# Altium integrated library con-omron.IntLib: 107 symbols (part 3 of 3)

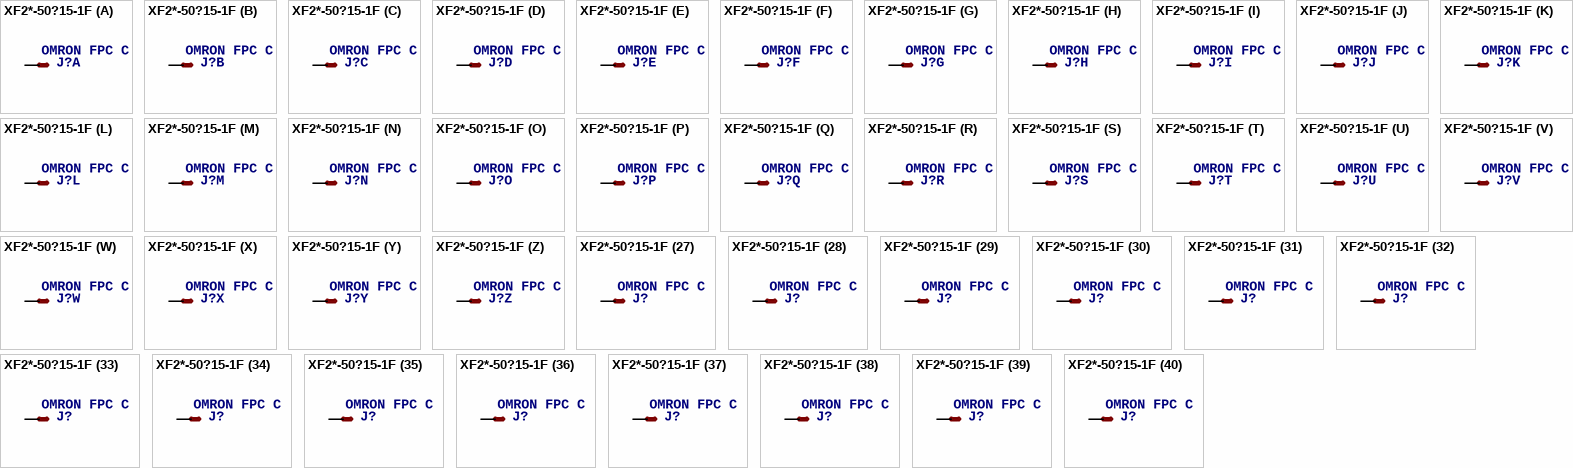
[diagram p46: symbol XF2*-50?15-1F]

## XF2*-50?15-1F
designator J?, comment OMRON FPC Connector   Source : http://www.omron.com/ecb/products/pdf/fpc.pdf
OC_FARNELL: unknown; OC_NEWARK: unknown
footprint XF2M-5015-1F
part A pins: 1 MSV
part B pins: 2 MS
part C pins: 3 MS
part D pins: 4 MS
part E pins: 5 MS
part F pins: 6 MS
part G pins: 7 MS
part H pins: 8 MS
part I pins: 9 MS
part J pins: 10 MS
part K pins: 11 MS
part L pins: 12 MS
part M pins: 13 MS
part N pins: 14 MS
part O pins: 15 MS
part P pins: 16 MS
part Q pins: 17 MS
part R pins: 18 MS
part S pins: 19 MS
part T pins: 20 MS
part U pins: 21 MS
part V pins: 22 MS
part W pins: 23 MS
part X pins: 24 MS
part Y pins: 25 MS
part Z pins: 26 MS
part 27 pins: 27 MS
part 28 pins: 28 MS
part 29 pins: 29 MS
part 30 pins: 30 MS
part 31 pins: 31 MS
part 32 pins: 32 MS
part 33 pins: 33 MS
part 34 pins: 34 MS
part 35 pins: 35 MS
part 36 pins: 36 MS
part 37 pins: 37 MS
part 38 pins: 38 MS
part 39 pins: 39 MS
part 40 pins: 40 MS
part 41 pins: 41 MS
part 42 pins: 42 MS
part 43 pins: 43 MS
part 44 pins: 44 MS
part 45 pins: 45 MS
part 46 pins: 46 MS
part 47 pins: 47 MS
part 48 pins: 48 MS
part 49 pins: 49 MS
part 50 pins: 50 MS

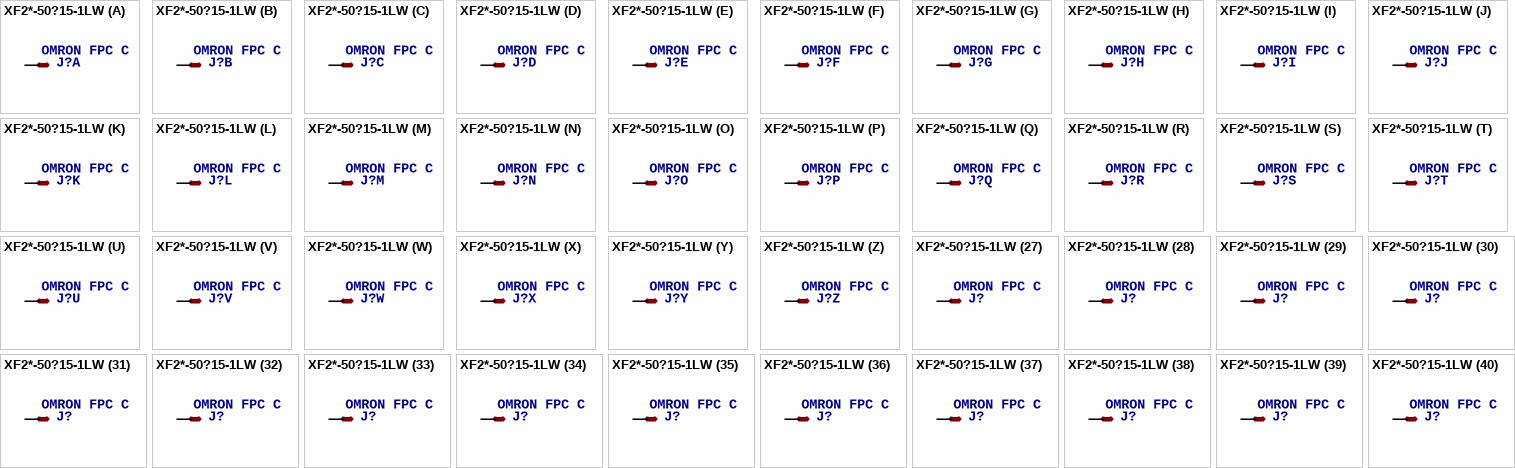
[diagram p47: symbol XF2*-50?15-1LW]

## XF2*-50?15-1LW
designator J?, comment OMRON FPC Connector   Source : http://www.omron.com/ecb/products/pdf/fpc.pdf
OC_FARNELL: unknown; OC_NEWARK: unknown
footprint XF2H-5015-1LW
part A pins: 1 MSV
part B pins: 2 MS
part C pins: 3 MS
part D pins: 4 MS
part E pins: 5 MS
part F pins: 6 MS
part G pins: 7 MS
part H pins: 8 MS
part I pins: 9 MS
part J pins: 10 MS
part K pins: 11 MS
part L pins: 12 MS
part M pins: 13 MS
part N pins: 14 MS
part O pins: 15 MS
part P pins: 16 MS
part Q pins: 17 MS
part R pins: 18 MS
part S pins: 19 MS
part T pins: 20 MS
part U pins: 21 MS
part V pins: 22 MS
part W pins: 23 MS
part X pins: 24 MS
part Y pins: 25 MS
part Z pins: 26 MS
part 27 pins: 27 MS
part 28 pins: 28 MS
part 29 pins: 29 MS
part 30 pins: 30 MS
part 31 pins: 31 MS
part 32 pins: 32 MS
part 33 pins: 33 MS
part 34 pins: 34 MS
part 35 pins: 35 MS
part 36 pins: 36 MS
part 37 pins: 37 MS
part 38 pins: 38 MS
part 39 pins: 39 MS
part 40 pins: 40 MS
part 41 pins: 41 MS
part 42 pins: 42 MS
part 43 pins: 43 MS
part 44 pins: 44 MS
part 45 pins: 45 MS
part 46 pins: 46 MS
part 47 pins: 47 MS
part 48 pins: 48 MS
part 49 pins: 49 MS
part 50 pins: 50 MS

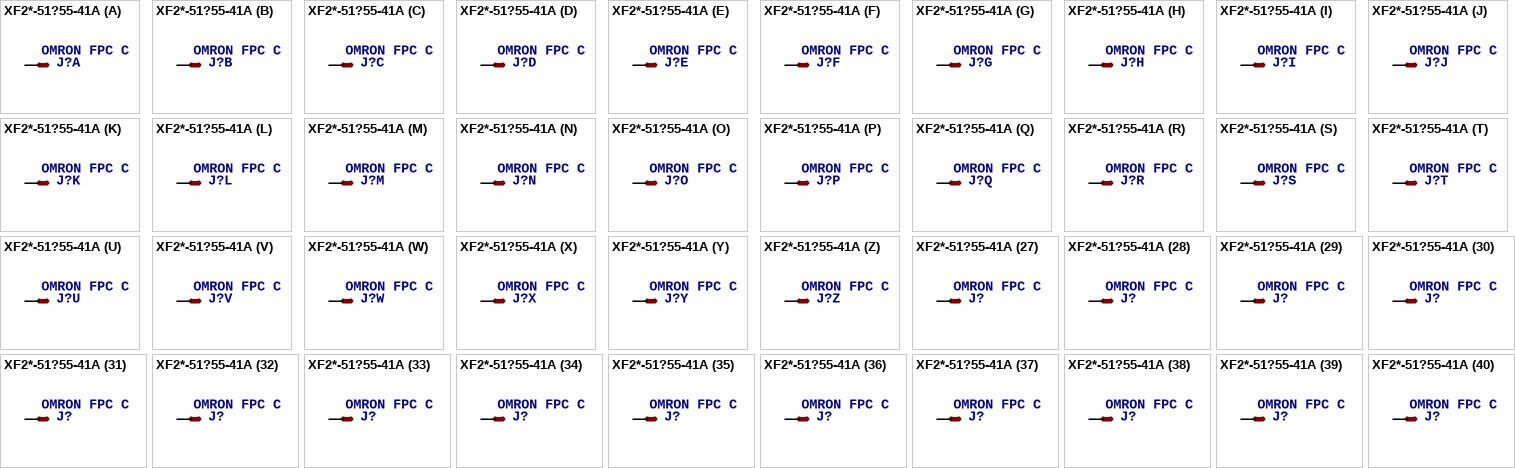
[diagram p48: symbol XF2*-51?55-41A]

## XF2*-51?55-41A
designator J?, comment OMRON FPC Connector   Source : http://www.omron.com/ecb/products/pdf/fpc.pdf
OC_FARNELL: unknown; OC_NEWARK: unknown
footprint XF2C-5155-41A
part A pins: 1 MSV
part B pins: 2 MS
part C pins: 3 MS
part D pins: 4 MS
part E pins: 5 MS
part F pins: 6 MS
part G pins: 7 MS
part H pins: 8 MS
part I pins: 9 MS
part J pins: 10 MS
part K pins: 11 MS
part L pins: 12 MS
part M pins: 13 MS
part N pins: 14 MS
part O pins: 15 MS
part P pins: 16 MS
part Q pins: 17 MS
part R pins: 18 MS
part S pins: 19 MS
part T pins: 20 MS
part U pins: 21 MS
part V pins: 22 MS
part W pins: 23 MS
part X pins: 24 MS
part Y pins: 25 MS
part Z pins: 26 MS
part 27 pins: 27 MS
part 28 pins: 28 MS
part 29 pins: 29 MS
part 30 pins: 30 MS
part 31 pins: 31 MS
part 32 pins: 32 MS
part 33 pins: 33 MS
part 34 pins: 34 MS
part 35 pins: 35 MS
part 36 pins: 36 MS
part 37 pins: 37 MS
part 38 pins: 38 MS
part 39 pins: 39 MS
part 40 pins: 40 MS
part 41 pins: 41 MS
part 42 pins: 42 MS
part 43 pins: 43 MS
part 44 pins: 44 MS
part 45 pins: 45 MS
part 46 pins: 46 MS
part 47 pins: 47 MS
part 48 pins: 48 MS
part 49 pins: 49 MS
part 50 pins: 50 MS
part 51 pins: 51 MS

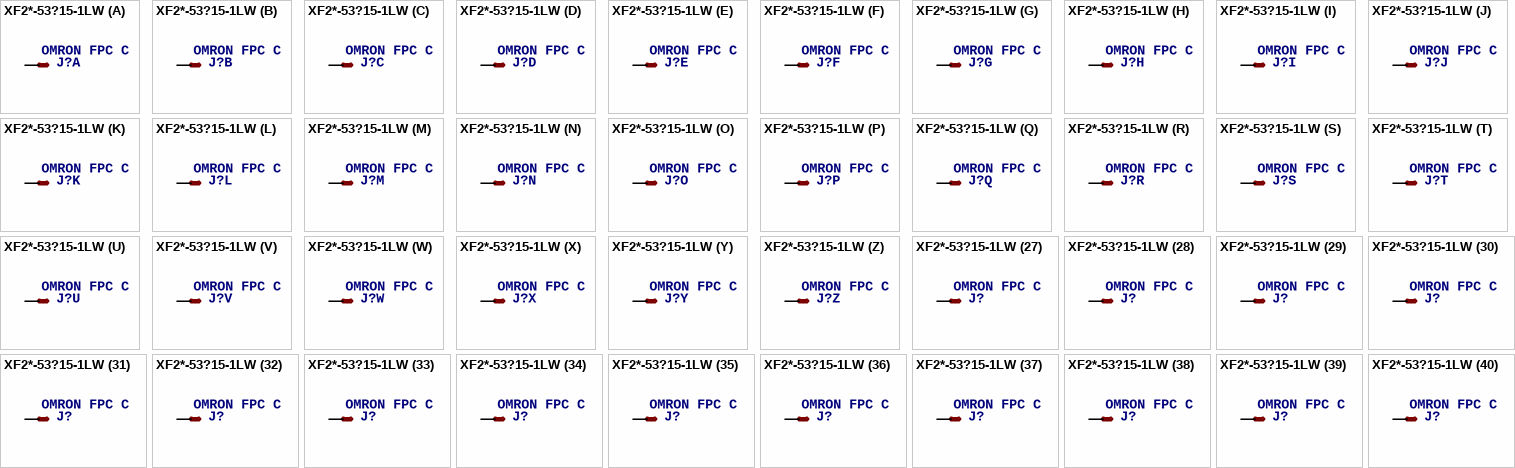
[diagram p49: symbol XF2*-53?15-1LW]

## XF2*-53?15-1LW
designator J?, comment OMRON FPC Connector 53 Pin   Source: http://www.omron.com/ecb/products/pdf/fpc.pdf
OC_FARNELL: unknown; OC_NEWARK: unknown
footprint XF2H-5315-1LW
part A pins: 1 MSV
part B pins: 2 MS
part C pins: 3 MS
part D pins: 4 MS
part E pins: 5 MS
part F pins: 6 MS
part G pins: 7 MS
part H pins: 8 MS
part I pins: 9 MS
part J pins: 10 MS
part K pins: 11 MS
part L pins: 12 MS
part M pins: 13 MS
part N pins: 14 MS
part O pins: 15 MS
part P pins: 16 MS
part Q pins: 17 MS
part R pins: 18 MS
part S pins: 19 MS
part T pins: 20 MS
part U pins: 21 MS
part V pins: 22 MS
part W pins: 23 MS
part X pins: 24 MS
part Y pins: 25 MS
part Z pins: 26 MS
part 27 pins: 27 MS
part 28 pins: 28 MS
part 29 pins: 29 MS
part 30 pins: 30 MS
part 31 pins: 31 MS
part 32 pins: 32 MS
part 33 pins: 33 MS
part 34 pins: 34 MS
part 35 pins: 35 MS
part 36 pins: 36 MS
part 37 pins: 37 MS
part 38 pins: 38 MS
part 39 pins: 39 MS
part 40 pins: 40 MS
part 41 pins: 41 MS
part 42 pins: 42 MS
part 43 pins: 43 MS
part 44 pins: 44 MS
part 45 pins: 45 MS
part 46 pins: 46 MS
part 47 pins: 47 MS
part 48 pins: 48 MS
part 49 pins: 49 MS
part 50 pins: 50 MS
part 51 pins: 51 MS
part 52 pins: 52 MS
part 53 pins: 53 MS

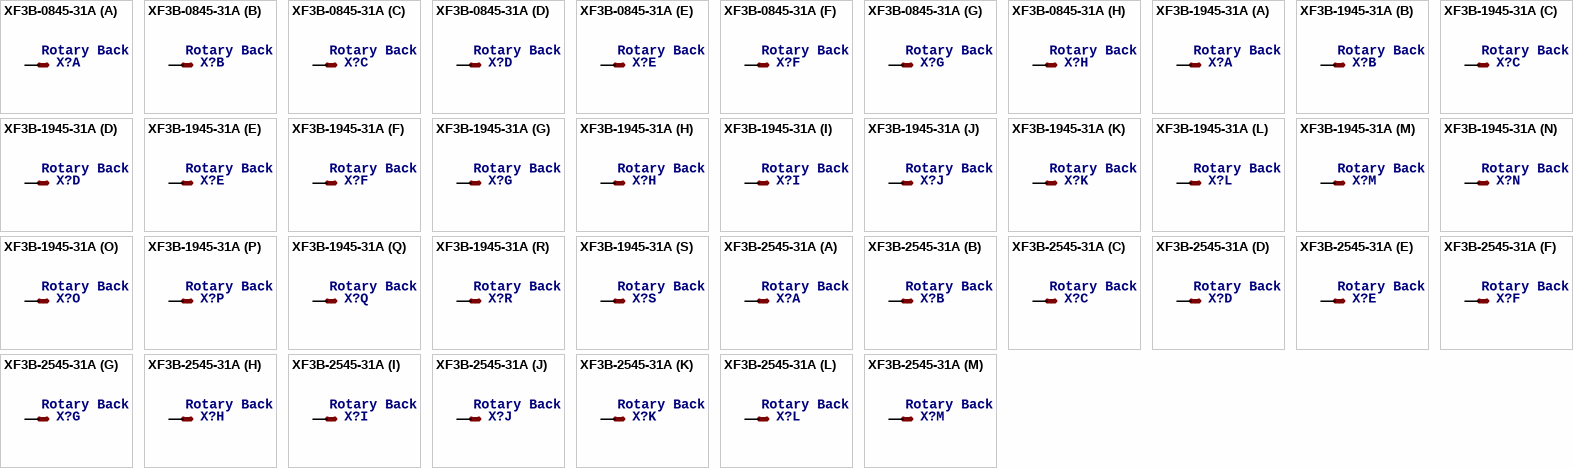
[diagram p50: symbols XF3B-0845-31A to XF3B-2545-31A]

## XF3B-0845-31A
designator X?, comment Rotary Backlock Connector (0.3-mm Pitch, Dual Contact)   Source:  Data sheet
footprint XF3B-8
part A pins: 1 MSV
part B pins: 2 MS
part C pins: 3 MS
part D pins: 4 MS
part E pins: 5 MS
part F pins: 6 MS
part G pins: 7 MS
part H pins: 8 MS

## XF3B-1945-31A
designator X?, comment Rotary Backlock Connector (0.3-mm Pitch, Dual Contact)   Source:  Data sheet
footprint XF3B-19
part A pins: 1 MSV
part B pins: 2 MS
part C pins: 3 MS
part D pins: 4 MS
part E pins: 5 MS
part F pins: 6 MS
part G pins: 7 MS
part H pins: 8 MS
part I pins: 9 MS
part J pins: 10 MS
part K pins: 11 MS
part L pins: 12 MS
part M pins: 13 MS
part N pins: 14 MS
part O pins: 15 MS
part P pins: 16 MS
part Q pins: 17 MS
part R pins: 18 MS
part S pins: 19 MS

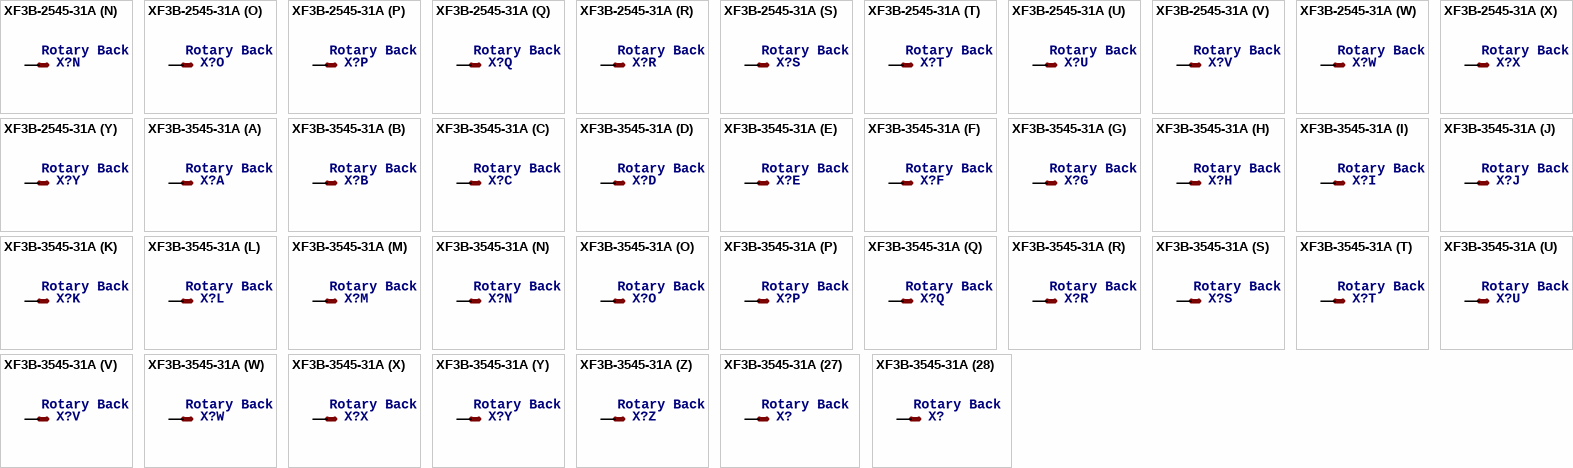
[diagram p51: symbols XF3B-2545-31A to XF3B-3545-31A]

## XF3B-2545-31A
designator X?, comment Rotary Backlock Connector (0.3-mm Pitch, Dual Contact)   Source:  Data sheet
footprint XF3B-25
part A pins: 1 MSV
part B pins: 2 MS
part C pins: 3 MS
part D pins: 4 MS
part E pins: 5 MS
part F pins: 6 MS
part G pins: 7 MS
part H pins: 8 MS
part I pins: 9 MS
part J pins: 10 MS
part K pins: 11 MS
part L pins: 12 MS
part M pins: 13 MS
part N pins: 14 MS
part O pins: 15 MS
part P pins: 16 MS
part Q pins: 17 MS
part R pins: 18 MS
part S pins: 19 MS
part T pins: 20 MS
part U pins: 21 MS
part V pins: 22 MS
part W pins: 23 MS
part X pins: 24 MS
part Y pins: 25 MS

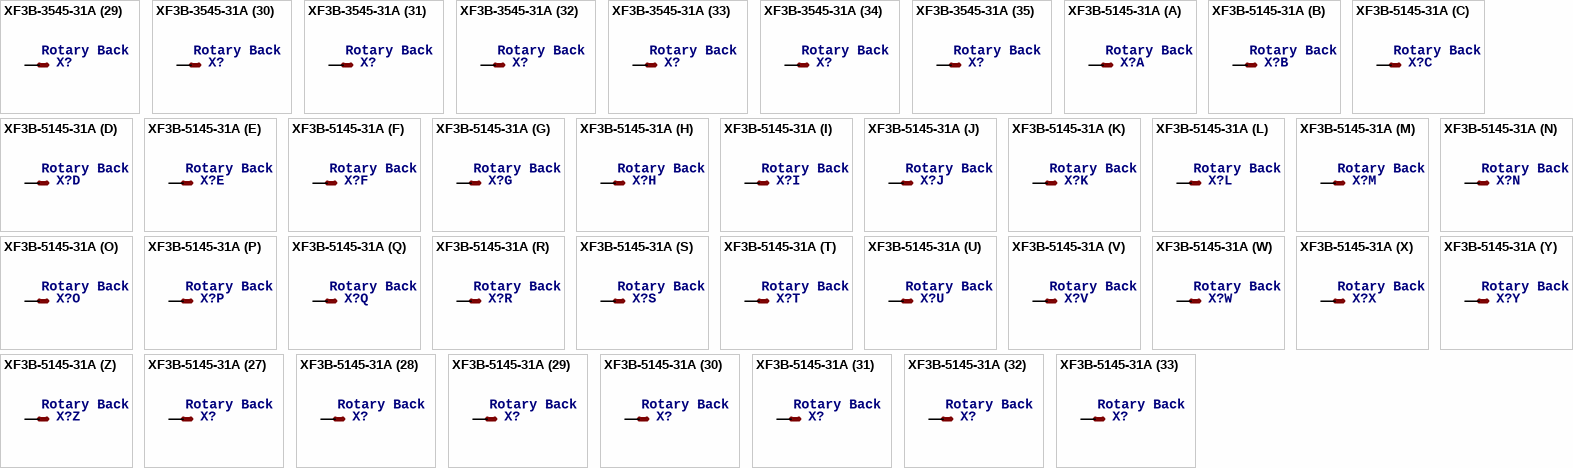
[diagram p52: symbols XF3B-3545-31A to XF3B-5145-31A]

## XF3B-3545-31A
designator X?, comment Rotary Backlock Connector (0.3-mm Pitch, Dual Contact)   Source:  Data sheet
footprint XF3B-35
part A pins: 1 MSV
part B pins: 2 MS
part C pins: 3 MS
part D pins: 4 MS
part E pins: 5 MS
part F pins: 6 MS
part G pins: 7 MS
part H pins: 8 MS
part I pins: 9 MS
part J pins: 10 MS
part K pins: 11 MS
part L pins: 12 MS
part M pins: 13 MS
part N pins: 14 MS
part O pins: 15 MS
part P pins: 16 MS
part Q pins: 17 MS
part R pins: 18 MS
part S pins: 19 MS
part T pins: 20 MS
part U pins: 21 MS
part V pins: 22 MS
part W pins: 23 MS
part X pins: 24 MS
part Y pins: 25 MS
part Z pins: 26 MS
part 27 pins: 27 MS
part 28 pins: 28 MS
part 29 pins: 29 MS
part 30 pins: 30 MS
part 31 pins: 31 MS
part 32 pins: 32 MS
part 33 pins: 33 MS
part 34 pins: 34 MS
part 35 pins: 35 MS

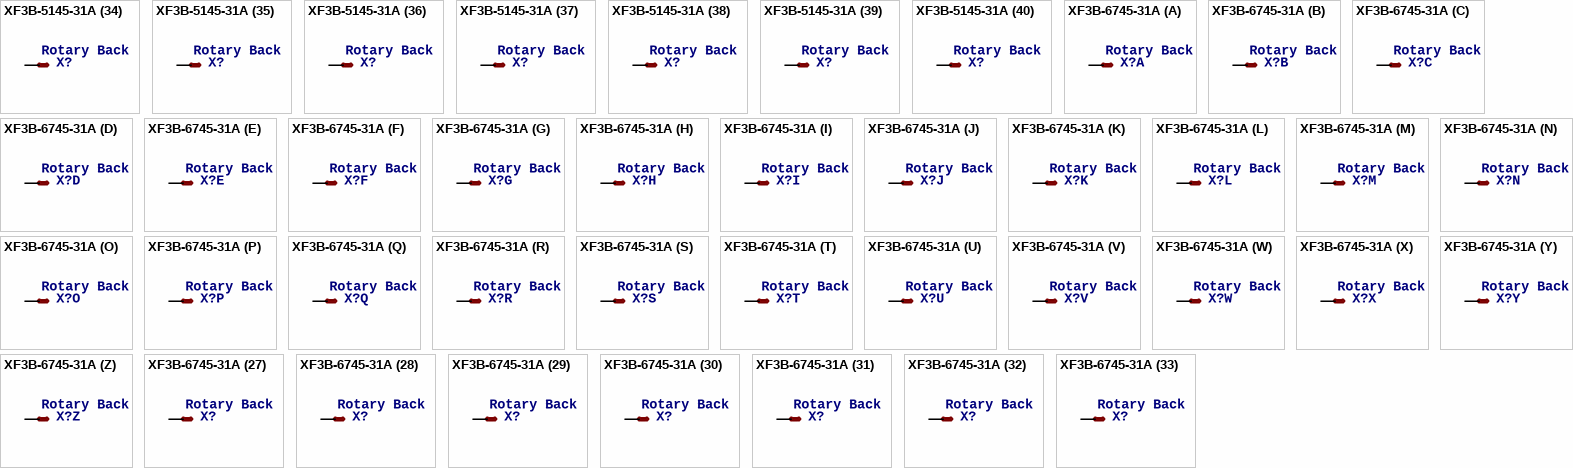
[diagram p53: symbols XF3B-5145-31A to XF3B-6745-31A]

## XF3B-5145-31A
designator X?, comment Rotary Backlock Connector (0.3-mm Pitch, Dual Contact)   Source:  Data sheet
footprint XF3B-51
part A pins: 1 MSV
part B pins: 2 MS
part C pins: 3 MS
part D pins: 4 MS
part E pins: 5 MS
part F pins: 6 MS
part G pins: 7 MS
part H pins: 8 MS
part I pins: 9 MS
part J pins: 10 MS
part K pins: 11 MS
part L pins: 12 MS
part M pins: 13 MS
part N pins: 14 MS
part O pins: 15 MS
part P pins: 16 MS
part Q pins: 17 MS
part R pins: 18 MS
part S pins: 19 MS
part T pins: 20 MS
part U pins: 21 MS
part V pins: 22 MS
part W pins: 23 MS
part X pins: 24 MS
part Y pins: 25 MS
part Z pins: 26 MS
part 27 pins: 27 MS
part 28 pins: 28 MS
part 29 pins: 29 MS
part 30 pins: 30 MS
part 31 pins: 31 MS
part 32 pins: 32 MS
part 33 pins: 33 MS
part 34 pins: 34 MS
part 35 pins: 35 MS
part 36 pins: 36 MS
part 37 pins: 37 MS
part 38 pins: 38 MS
part 39 pins: 39 MS
part 40 pins: 40 MS
part 41 pins: 41 MS
part 42 pins: 42 MS
part 43 pins: 43 MS
part 44 pins: 44 MS
part 45 pins: 45 MS
part 46 pins: 46 MS
part 47 pins: 47 MS
part 48 pins: 48 MS
part 49 pins: 49 MS
part 50 pins: 50 MS
part 51 pins: 51 MS

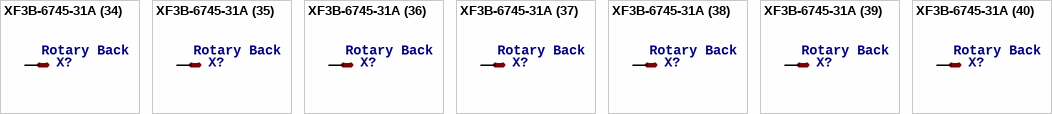
[diagram p54: symbol XF3B-6745-31A]

## XF3B-6745-31A
designator X?, comment Rotary Backlock Connector (0.3-mm Pitch, Dual Contact)   Source:  Data sheet
footprint XF3B-67
part A pins: 1 MSV
part B pins: 2 MS
part C pins: 3 MS
part D pins: 4 MS
part E pins: 5 MS
part F pins: 6 MS
part G pins: 7 MS
part H pins: 8 MS
part I pins: 9 MS
part J pins: 10 MS
part K pins: 11 MS
part L pins: 12 MS
part M pins: 13 MS
part N pins: 14 MS
part O pins: 15 MS
part P pins: 16 MS
part Q pins: 17 MS
part R pins: 18 MS
part S pins: 19 MS
part T pins: 20 MS
part U pins: 21 MS
part V pins: 22 MS
part W pins: 23 MS
part X pins: 24 MS
part Y pins: 25 MS
part Z pins: 26 MS
part 27 pins: 27 MS
part 28 pins: 28 MS
part 29 pins: 29 MS
part 30 pins: 30 MS
part 31 pins: 31 MS
part 32 pins: 32 MS
part 33 pins: 33 MS
part 34 pins: 34 MS
part 35 pins: 35 MS
part 36 pins: 36 MS
part 37 pins: 37 MS
part 38 pins: 38 MS
part 39 pins: 39 MS
part 40 pins: 40 MS
part 41 pins: 41 MS
part 42 pins: 42 MS
part 43 pins: 43 MS
part 44 pins: 44 MS
part 45 pins: 45 MS
part 46 pins: 46 MS
part 47 pins: 47 MS
part 48 pins: 48 MS
part 49 pins: 49 MS
part 50 pins: 50 MS
part 51 pins: 51 MS
part 52 pins: 52 MS
part 53 pins: 53 MS
part 54 pins: 54 MS
part 55 pins: 55 MS
part 56 pins: 56 MS
part 57 pins: 57 MS
part 58 pins: 58 MS
part 59 pins: 59 MS
part 60 pins: 60 MS
part 61 pins: 61 MS
part 62 pins: 62 MS
part 63 pins: 63 MS
part 64 pins: 64 MS
part 65 pins: 65 MS
part 66 pins: 66 MS
part 67 pins: 67 MS